# Altium footprint library SAMTEC_FWJ-04-01-T-S.PcbLib: 1 footprints
Each footprint in its own frame and in the unit in brackets; x right, y up, seen from the top. Pads: shape width x height; smd on the part's side, far side on the other; paste and mask are expansions set on the pad; w line width, h text height; cw(c..) or ccw(c..) is an arc to the next point about the centre after c.
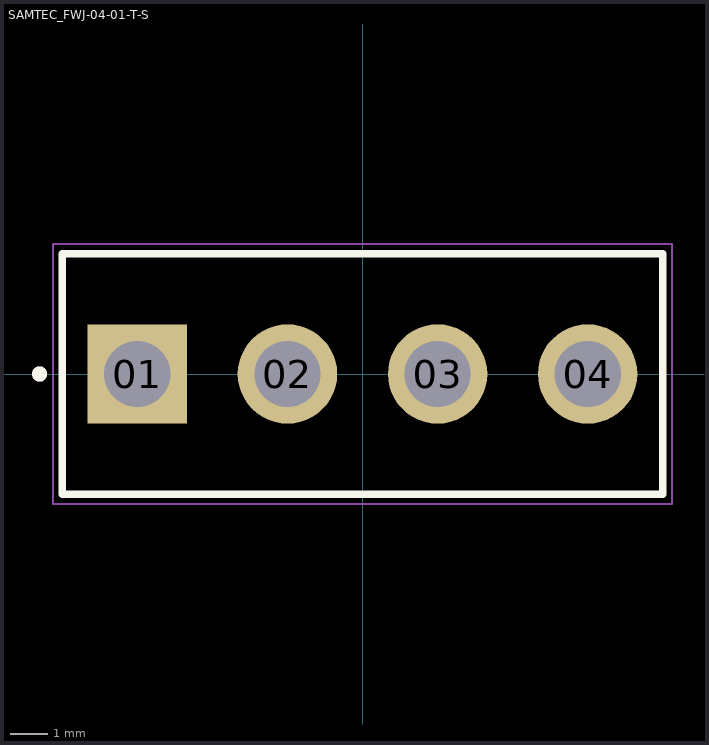
[diagram p0: the footprint, top view; thin cyan lines are the x and y axes]

## SAMTEC_FWJ-04-01-T-S [mm]
pads (4):
  rect 2.625x2.625 hole 1.75: 01(-5.94,0)
  round 2.625 hole 1.75: 02(-1.98,0) 03(1.98,0) 04(5.94,0)
Top Overlay:
  circle w0.2: c-8.52,0 r0.1
  lines w0.2: -7.92,-3.175 7.92,-3.175 7.92,3.175 -7.92,3.175 -7.92,-3.175
Mechanical 13:
  circle w0.2: c-8.52,0 r0.1
  lines w0.1: -7.92,-3.175 -7.92,3.175 7.92,3.175 7.92,-3.175 -7.92,-3.175
Mechanical 15:
  lines w0.05: -8.17,-3.425 8.17,-3.425 8.17,3.425 -8.17,3.425 -8.17,-3.425